# Altium schematic symbol library KC52A30.001NPS.SchLib: 1 symbol
Pins are listed as number, name and electrical type; pins without a type are passive.

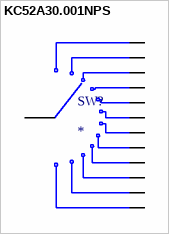
[diagram p0: symbol KC52A30.001NPS]

## KC52A30.001NPS
designator SW?
Rotary Switch 12 Position SP12T 350mA (AC) 125 VAC Panel Mount, Through Hole; MF: E-Switch; MP: KC52A30.001NPS; Availability: In Stock; SnapEDA_Link: https://www.snapeda.com/parts/KC52A30.001NPS/E-Switch/view-part/?ref=snap; Check_prices: https://www.snapeda.com/parts/KC52A30.001NPS/E-Switch/view-part/?ref=eda; Price: None; Package: None; Purchase-URL: https://pricing.snapeda.com/search/part/KC52A30.001NPS/?ref=eda; Value: *
footprint SW_KC52A30.001NPS
pins: 1, 2, 3, 4, 5, 6, 7, 8, 9, 10, 11, 12, A